# EAGLE library part TXS0102DCTR (library DZ)
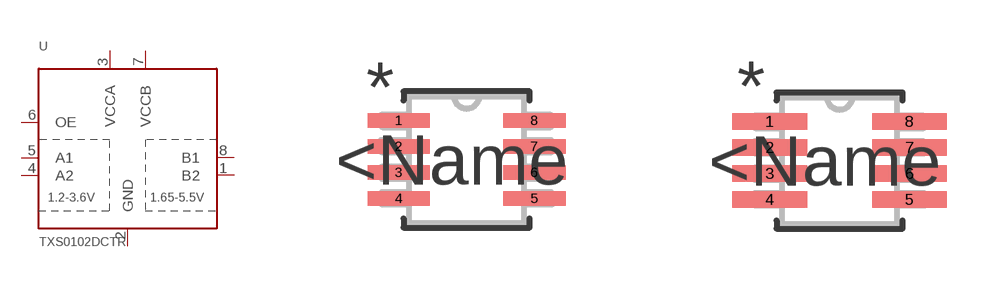
[diagram p2: symbol with the pads of DCT8; footprints DCT8, DCT8-M]

Designator prefix -

## TXS0102DCTR (3D_LIBRARY_NAME: TI_AllParts_20121225; COPYRIGHT: Copyright C 2015 Accelerated Designs. All rights reserved; DATASHEETURL: httpwww.ti.comlitgpnTXS0102; DESCRIPTION: 2Bit Bidirectional VoltageLevel Translator for OpenDrain Application; FAMILY_NAME: AUTO DIRECTION SENSING DUAL SUPPLY TRANSLATOR; GENERIC_PART_NUMBER: TXS0102; INDUSTRY_STD_PKG_TYPE: SM8; MANUFACTURER: Texas Instruments; MANUFACTURER_PART_NUMBER: TXS0102DCTR; PACKAGE_DESIGNATOR: DCT; PIN_COUNT: 8; VENDOR: Texas Instruments)  [DCT8]
1  B2
2  GND
3  VCCA
4  A2
5  A1
6  OE
7  VCCB
8  B1

## TXS0102DCTRDCT8-M (3D_LIBRARY_NAME: TI_AllParts_20121225; COPYRIGHT: Copyright C 2015 Accelerated Designs. All rights reserved; DATASHEETURL: httpwww.ti.comlitgpnTXS0102; DESCRIPTION: 2Bit Bidirectional VoltageLevel Translator for OpenDrain Application; FAMILY_NAME: AUTO DIRECTION SENSING DUAL SUPPLY TRANSLATOR; GENERIC_PART_NUMBER: TXS0102; INDUSTRY_STD_PKG_TYPE: SM8; MANUFACTURER: Texas Instruments; MANUFACTURER_PART_NUMBER: TXS0102DCTR; PACKAGE_DESIGNATOR: DCT; PIN_COUNT: 8; VENDOR: Texas Instruments)  [DCT8-M]
Pads as for DCT8

## TXS0102DCTRDCT8-L (3D_LIBRARY_NAME: TI_AllParts_20121225; COPYRIGHT: Copyright C 2015 Accelerated Designs. All rights reserved; DATASHEETURL: httpwww.ti.comlitgpnTXS0102; DESCRIPTION: 2Bit Bidirectional VoltageLevel Translator for OpenDrain Application; FAMILY_NAME: AUTO DIRECTION SENSING DUAL SUPPLY TRANSLATOR; GENERIC_PART_NUMBER: TXS0102; INDUSTRY_STD_PKG_TYPE: SM8; MANUFACTURER: Texas Instruments; MANUFACTURER_PART_NUMBER: TXS0102DCTR; PACKAGE_DESIGNATOR: DCT; PIN_COUNT: 8; VENDOR: Texas Instruments)  [DCT8-L]
Pads as for DCT8

## Footprint DCT8 (pad centres in mm)
smd 1.562 x 0.356: 1 -1.695,0.975; 2 -1.695,0.325; 3 -1.695,-0.325; 4 -1.695,-0.975; 5 1.695,-0.975; 6 1.695,-0.325; 7 1.695,0.325; 8 1.695,0.975

## Footprint DCT8-M (pad centres in mm)
smd 1.867 x 0.406: 1 -1.746,0.975; 2 -1.746,0.325; 3 -1.746,-0.325; 4 -1.746,-0.975; 5 1.746,-0.975; 6 1.746,-0.325; 7 1.746,0.325; 8 1.746,0.975

## Footprint DCT8-L (pad centres in mm)
smd 1.257 x 0.305: 1 -1.645,0.975; 2 -1.645,0.325; 3 -1.645,-0.325; 4 -1.645,-0.975; 5 1.645,-0.975; 6 1.645,-0.325; 7 1.645,0.325; 8 1.645,0.975